# EAGLE library part SC18IS600 (library aspirin)
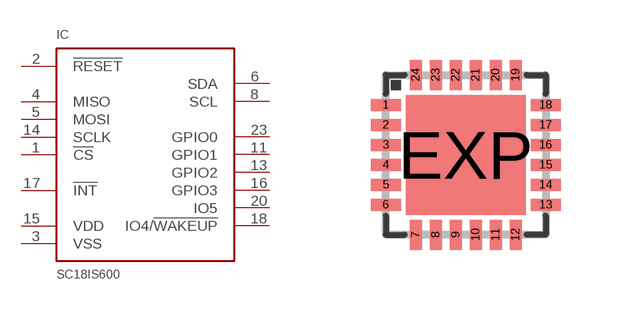
[diagram p4: symbol with the pads of QFN24; footprint QFN24]

Designator prefix IC

## SC18IS600  [QFN24]
1  !CS
2  !RESET
3  VSS
4  MISO
5  MOSI
6  SDA
8  SCL
11  GPIO1
13  GPIO2
14  SCLK
15  VDD
16  GPIO3
17  !INT
18  IO4/!WAKEUP
20  IO5
23  GPIO0

## Footprint QFN24 (pad centres in mm)
smd 0.75 x 0.3: 1 -2,1.25; 2 -2,0.75; 3 -2,0.25; 4 -2,-0.25; 5 -2,-0.75; 6 -2,-1.25; 13 2,-1.25; 14 2,-0.75; 15 2,-0.25; 16 2,0.25; 17 2,0.75; 18 2,1.25
smd 0.3 x 0.75: 7 -1.25,-2; 8 -0.75,-2; 9 -0.25,-2; 10 0.25,-2; 11 0.75,-2; 12 1.25,-2; 19 1.25,2; 20 0.75,2; 21 0.25,2; 22 -0.25,2; 23 -0.75,2; 24 -1.25,2
smd 3 x 3: EXP 0,0